# EAGLE library part WE-D-SUB_THT90_EC_212112013 (library WE-D-SUB)
WE-D-SUB Filter Bent 90° THT Characteristics Standard type filtered with 1000 pF High attenuation: max. ≥ 40 dB @ 180 MHz Choice of earthing metal sheet or high speed earthing clip Rated voltage: 100 VDC Rated current @ 20 ºC: 5 A Withstand voltage: 250 VRMS Insulation resistance: min. 1000 MΩ Operating temperature: –55 ºC to +125 ºC Applications Filtering of interfaces External connection to -printer -sensor -display Device and Package Name Note: MS means Size Metal Sheet EC means Size Earthing Clip <https://katalog.we-online.com/media/images/v2/o14704v209%20Family_d-sub_filter_90_abgewinkelt.jpg> Details see: https://katalog.we-online.com/en/pbs/D-SUB-FILTER-BENT90 Updated by Ella Wu 2019-09-11 2019(C) Wurth Elektronik
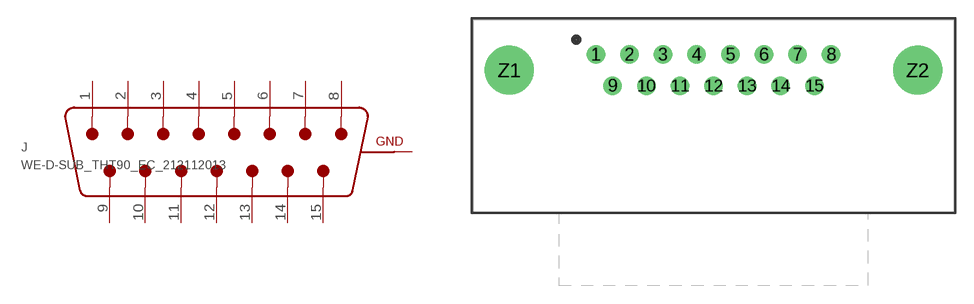
[diagram p16: symbol with the pads of WE-D-SUB_THT90_EC_212112013; footprint WE-D-SUB_THT90_EC_212112013]

Designator prefix J

## WE-D-SUB_THT90_EC_212112013 (DATASHEET-URL: https://katalog.we-online.de/pbs/datasheet/212112013.pdf; MOUNT: THT; PART-NUMBER: 212112013; POLES: 15; TYPE: Male)  [WE-D-SUB_THT90_EC_212112013]
1  1  pas
2  2  pas
3  3  pas
4  4  pas
5  5  pas
6  6  pas
7  7  pas
8  8  pas
9  9  pas
10  10  pas
11  11  pas
12  12  pas
13  13  pas
14  14  pas
15  15  pas
Z1  GND  pas
Z2  GND  pas

## Footprint WE-D-SUB_THT90_EC_212112013 (pad centres in mm)
WE-D-SUB Filter Bent 90° THT 15 Poles , Male MS means Size Metal Sheet EC means Size Earthing Clip
drill 1: 1 -9.6,1.27; 2 -6.86,1.27; 3 -4.11,1.27; 4 -1.37,1.27; 5 1.37,1.27; 6 4.11,1.27; 7 6.86,1.27; 8 9.6,1.27; 9 -8.23,-1.27; 10 -5.48,-1.27; 11 -2.74,-1.27; 12 0,-1.27; 13 2.74,-1.27; 14 5.48,-1.27; 15 8.23,-1.27
drill 3: Z1 -16.65,0; Z2 16.65,0